# EAGLE library part ULN2803 (library interfaces)
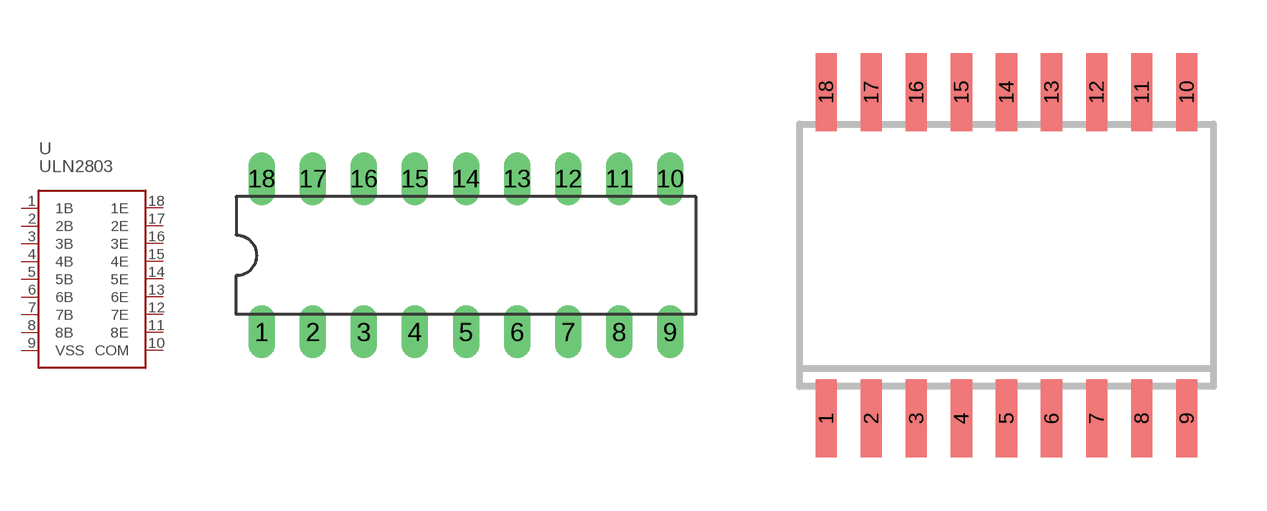
[diagram p0: symbol with the pads of DIP18; footprints DIP18, SOIC18W]

Designator prefix -

## ULN2803DIP  [DIP18]
1  1B
2  2B
3  3B
4  4B
5  5B
6  6B
7  7B
8  8B
9  VSS
10  COM
11  8E
12  7E
13  6E
14  5E
15  4E
16  3E
17  2E
18  1E

## ULN2803SO  [SOIC18W]
Pads as for DIP18

## Footprint DIP18 (pad centres in mm)
Dual In Line Package
drill 0.813 long: 1 -10.16,-3.81; 2 -7.62,-3.81; 3 -5.08,-3.81; 4 -2.54,-3.81; 5 0,-3.81; 6 2.54,-3.81; 7 5.08,-3.81; 8 7.62,-3.81; 9 10.16,-3.81; 10 10.16,3.81; 11 7.62,3.81; 12 5.08,3.81; 13 2.54,3.81; 14 0,3.81; 15 -2.54,3.81; 16 -5.08,3.81; 17 -7.62,3.81; 18 -10.16,3.81

## Footprint SOIC18W (pad centres in mm)
Small Outline Integrated Circuit wide
smd 0.6 x 2.2: 1 -5.08,-4.6; 2 -3.81,-4.6; 3 -2.54,-4.6; 4 -1.27,-4.6; 5 0,-4.6; 6 1.27,-4.6; 7 2.54,-4.6; 8 3.81,-4.6; 9 5.08,-4.6; 10 5.08,4.6; 11 3.81,4.6; 12 2.54,4.6; 13 1.27,4.6; 14 0,4.6; 15 -1.27,4.6; 16 -2.54,4.6; 17 -3.81,4.6; 18 -5.08,4.6